# EAGLE library part OPA1622 (library common)
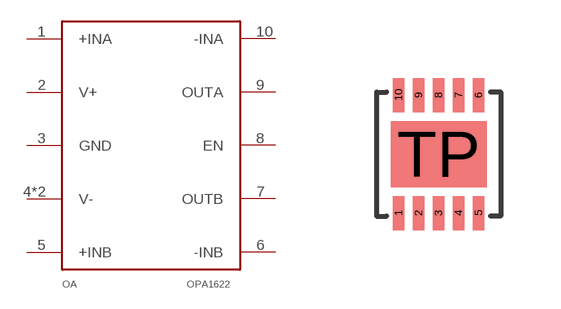
[diagram p21: symbol with the pads of S-PVSON-N10; footprint S-PVSON-N10]

Designator prefix OA

## OPA1622  [S-PVSON-N10]
1  +INA
2  V+
3  GND
4  V-
5  +INB
6  -INB
7  OUTB
8  EN
9  OUTA
10  -INA
TP  V-

## Footprint S-PVSON-N10 (pad centres in mm)
smd 0.28 x 0.85: 1 -1,-1.475; 2 -0.5,-1.475; 3 0,-1.475; 4 0.5,-1.475; 5 1,-1.475; 6 1,1.475; 7 0.5,1.475; 8 0,1.475; 9 -0.5,1.475; 10 -1,1.475
smd 2.4 x 1.65: TP 0,0